# EAGLE library part TEENSY_LC (library affencustomlib)
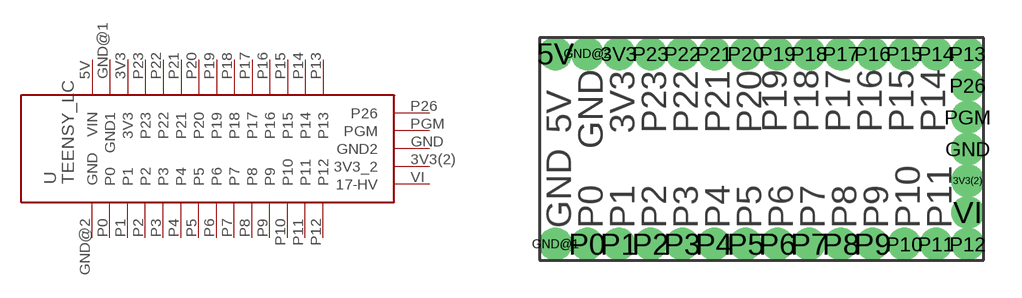
[diagram p0: symbol with the pads of TEENSYLC_PAC; footprint TEENSYLC_PAC]

Designator prefix -

## TEENSY_LC  [TEENSYLC_PAC]
3V3  3V3  sup
3V3(2)  3V3_2  sup
5V  VIN  pwr
GND  GND2  sup
GND@1  GND1  sup
GND@2  GND  sup
P0  P0
P1  P1
P2  P2
P3  P3
P4  P4
P5  P5
P6  P6
P7  P7
P8  P8
P9  P9
P10  P10
P11  P11
P12  P12
P13  P13
P14  P14
P15  P15
P16  P16
P17  P17
P18  P18
P19  P19
P20  P20
P21  P21
P22  P22
P23  P23
P26  P26
PGM  PGM
VI  17-HV

## Footprint TEENSYLC_PAC (pad centres in mm)
drill 0.8 pad 1.016: 3V3 -9.525,4.445; 3V3(2) 4.445,-0.635; 5V -12.065,4.445; GND 4.445,0.635; GND@1 -12.065,-3.175; GND@2 -10.795,4.445; P0 -10.795,-3.175; P1 -9.525,-3.175; P2 -8.255,-3.175; P3 -6.985,-3.175; P4 -5.715,-3.175; P5 -4.445,-3.175; P6 -3.175,-3.175; P7 -1.905,-3.175; P8 -0.635,-3.175; P9 0.635,-3.175; P10 1.905,-3.175; P11 3.175,-3.175; P12 4.445,-3.175; P13 4.445,4.445; P14 3.175,4.445; P15 1.905,4.445; P16 0.635,4.445; P17 -0.635,4.445; P18 -1.905,4.445; P19 -3.175,4.445; P20 -4.445,4.445; P21 -5.715,4.445; P22 -6.985,4.445; P23 -8.255,4.445; P26 4.445,3.175; PGM 4.445,1.905; VI 4.445,-1.905